# EAGLE library part IC-DCDC-8PIN (library LITTLEBITS140826)
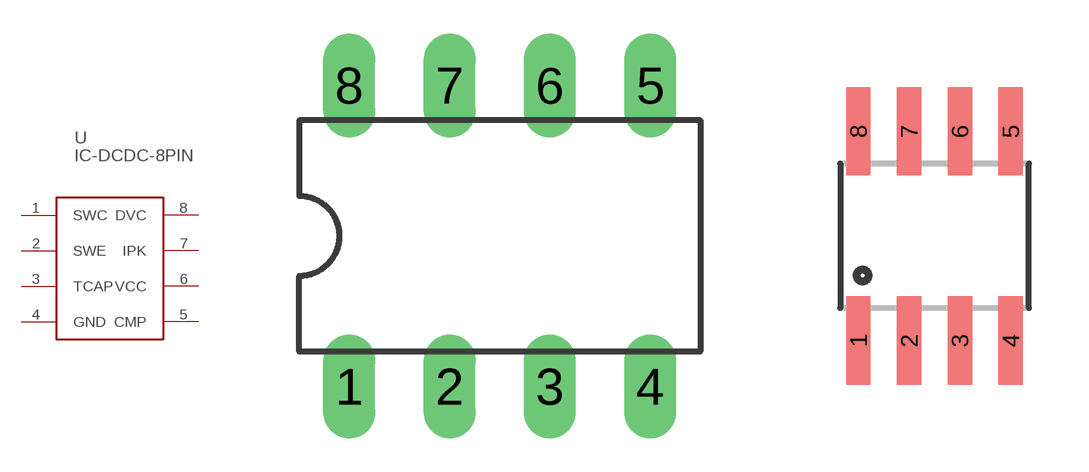
[diagram p76: symbol with the pads of DIL08; footprints DIL08, SOIC8]

Designator prefix -

## IC-DCDC-8PINDIP  [DIL08]
1  SWC
2  SWE
3  TCAP
4  GND
5  CMP
6  VCC
7  IPK
8  DVC

## IC-DCDC-8PINSO  [SOIC8]
Pads as for DIL08

## IC-DCDC-8PINSON  [SON8-PW]
1  SWC
2  SWE
3  TCAP
4  GND
5  CMP
6  VCC
7  IPK
8  DVC
P$GND  GND

## Footprint DIL08 (pad centres in mm)
Dual In Line Package
drill 0.813 long: 1 -3.81,-3.81; 2 -1.27,-3.81; 3 1.27,-3.81; 4 3.81,-3.81; 5 3.81,3.81; 6 1.27,3.81; 7 -1.27,3.81; 8 -3.81,3.81

## Footprint SOIC8 (pad centres in mm)
smd 0.61 x 2.21: 1 -1.905,-2.616; 2 -0.635,-2.616; 3 0.635,-2.616; 4 1.905,-2.616; 5 1.905,2.616; 6 0.635,2.616; 7 -0.635,2.616; 8 -1.905,2.616

## Footprint SON8-PW (pad centres in mm)
smd 0.95 x 0.35: 1 -1.925,1.2; 2 -1.925,0.4; 3 -1.925,-0.4; 4 -1.925,-1.2; 5 1.925,-1.2; 6 1.925,-0.4; 7 1.925,0.4; 8 1.925,1.2
smd 2.2 x 3: P$GND 0,0